# EAGLE library part JMP/10P/DIP (library audioint)
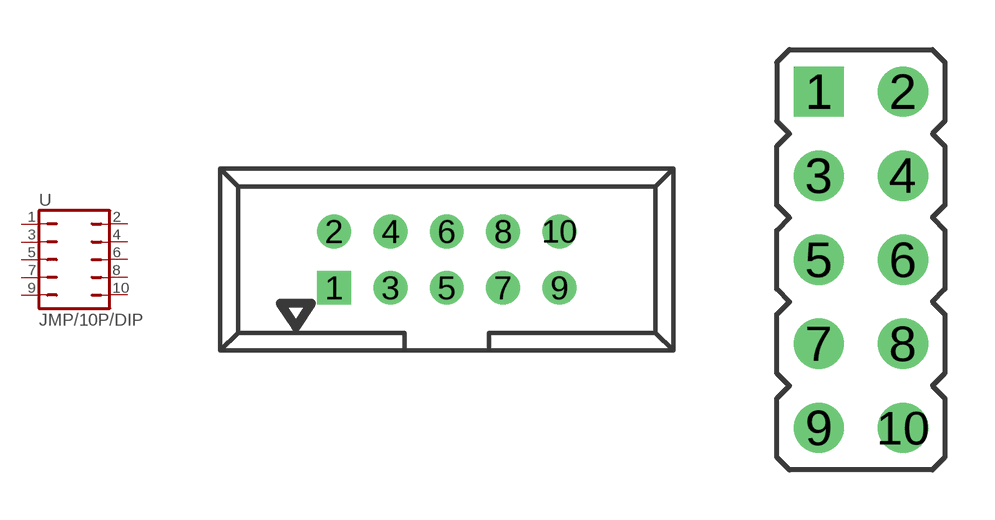
[diagram p8: symbol with the pads of JMP/10P/DIP/SHROUD; footprints JMP/10P/DIP/SHROUD, JMP/10P/DIP]

Designator prefix -

## JMP/10P/DIP  [JMP/10P/DIP/SHROUD]
1  1  pas
2  2  pas
3  3  pas
4  4  pas
5  5  pas
6  6  pas
7  7  pas
8  8  pas
9  9  pas
10  10  pas

## JMP/10P/DIPHEADER  [JMP/10P/DIP]
Pads as for JMP/10P/DIP/SHROUD

## Footprint JMP/10P/DIP/SHROUD (pad centres in mm)
drill 0.914 pad 1.524 square: 1 -5.08,-1.27
drill 0.914 pad 1.524 round: 2 -5.08,1.27; 3 -2.54,-1.27; 4 -2.54,1.27; 5 0,-1.27; 6 0,1.27; 7 2.54,-1.27; 8 2.54,1.27; 9 5.08,-1.27; 10 5.08,1.27

## Footprint JMP/10P/DIP (pad centres in mm)
drill 0.914 pad 1.524 square: 1 -1.27,5.08
drill 0.914 pad 1.524 round: 2 1.27,5.08; 3 -1.27,2.54; 4 1.27,2.54; 5 -1.27,0; 6 1.27,0; 7 -1.27,-2.54; 8 1.27,-2.54; 9 -1.27,-5.08; 10 1.27,-5.08